# Altium footprint library LM2596S-5.0.PcbLib: 1 footprints
Each footprint in its own frame and in the unit in brackets; x right, y up, seen from the top. Pads: shape width x height; smd on the part's side, far side on the other; paste and mask are expansions set on the pad; w line width, h text height; cw(c..) or ccw(c..) is an arc to the next point about the centre after c.
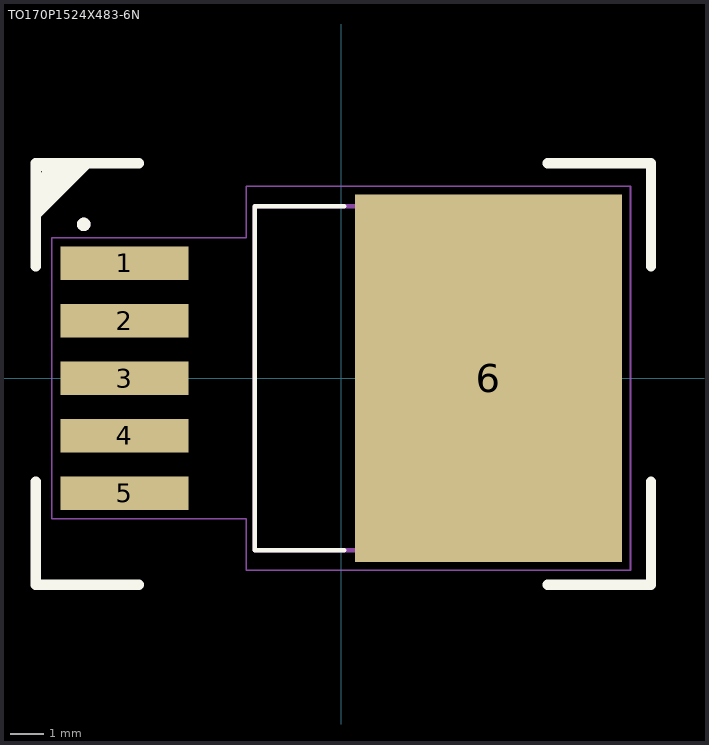
[diagram p0: the footprint, top view; thin cyan lines are the x and y axes]

## TO170P1524X483-6N [mm]
height 4.83
pads (6):
  rect 3.79x0.99 smd: 1(-6.4,3.4) 2(-6.4,1.7) 3(-6.4,0) 4(-6.4,-1.7) 5(-6.4,-3.4)
  rect 7.88x10.84 smd paste-6: 6(4.35,0)
Top Overlay:
  circle w0.2: c-7.603,4.544 r0.1
  lines w0.127: 0.09,-5.08 -2.553,-5.08 -2.553,5.08 0.09,5.08
  lines w0.3: -9.017,-3.048 -9.017,-6.096 -5.969,-6.096 ; -9.017,3.302 -9.017,6.35 -5.969,6.35 ; -8.763,6.223 -8.509,6.223 -8.89,5.842 -9.017,5.842 -8.763,5.588 -8.128,6.223 -8.001,6.223 -8.89,5.334 -9.017,5.334 -9.017,4.826 -7.493,6.35 ; 6.096,-6.096 9.144,-6.096 9.144,-3.048 ; 6.096,6.35 9.144,6.35 9.144,3.302
Top Paste:
  region: 5.11,0.28 3.59,0.28 3.59,1.53 5.11,1.53
  region: 2.48,0.28 0.96,0.28 0.96,1.53 2.48,1.53
  region: 7.74,0.28 6.22,0.28 6.22,1.53 7.74,1.53
  region: 5.11,2.09 3.59,2.09 3.59,3.34 5.11,3.34
  region: 2.48,2.09 0.96,2.09 0.96,3.34 2.48,3.34
  region: 7.74,2.09 6.22,2.09 6.22,3.34 7.74,3.34
  region: 5.11,3.9 3.59,3.9 3.59,5.15 5.11,5.15
  region: 2.48,3.9 0.96,3.9 0.96,5.15 2.48,5.15
  region: 7.74,3.9 6.22,3.9 6.22,5.15 7.74,5.15
  region: 5.11,-1.53 3.59,-1.53 3.59,-0.28 5.11,-0.28
  region: 2.48,-1.53 0.96,-1.53 0.96,-0.28 2.48,-0.28
  region: 7.74,-1.53 6.22,-1.53 6.22,-0.28 7.74,-0.28
  region: 5.11,-3.34 3.59,-3.34 3.59,-2.09 5.11,-2.09
  region: 2.48,-3.34 0.96,-3.34 0.96,-2.09 2.48,-2.09
  region: 7.74,-3.34 6.22,-3.34 6.22,-2.09 7.74,-2.09
  region: 5.11,-5.15 3.59,-5.15 3.59,-3.9 5.11,-3.9
  region: 2.48,-5.15 0.96,-5.15 0.96,-3.9 2.48,-3.9
  region: 7.74,-5.15 6.22,-5.15 6.22,-3.9 7.74,-3.9
Mechanical 13:
  circle w0.2: c-7.603,4.544 r0.1
  lines w0.127: -2.553,-5.08 6.368,-5.08 6.368,5.08 -2.553,5.08 -2.553,-5.08
Mechanical 15:
  lines w0.05: -8.545,-4.145 -8.545,4.145 -2.803,4.145 -2.803,5.67 8.54,5.67 8.54,-5.67 -2.803,-5.67 -2.803,-4.145 -8.545,-4.145
3D body "step_temp.STEP": height 4.65, standoff -0.15, extent -7.175,-5.08 7.175,5.08